# EAGLE library part 1324ПС2 (library microwave)
АЕЯР.431000.760–01 ТУ 1324ПС2 - СВЧ МИС широкополосного двойного балансного смесителя построенного на основе диодов Шоттки, имеет встроенный усилитель сигнала промежуточной частоты, обеспечивающий положительный коэффициент преобразования и согласование по выходу с линией с волновым сопротивлением 50 Ом. Возможно использование без встроенного усилителя. Входы смесителя являются согласованными. Достоинства: ► Диапазон входных частот 0,95-5,5 ГГц ► Диапазон выходных частот 0,01-1,6 ГГц ► Коэффициент преобразования 9,0 дБ ► Точка компрессии по входу 10,0 дБм ► Однополярное питание +5 В ► Потребляемый ток 30 мА ► Диапазон рабочих температур -60…+85 °С Назначение выводов: 1 Земля GND 2 Выход ПЧ IF_O 3 Вход РЧ RF 4 Земля GND 5 Вход гет. LO 6 Выход УПЧ и Uп IF 7 Вход УПЧ IF_I 8 Земля GND Электрические параметры при Uп=5 В, Pгет=16 дБм, fпч=100 МГц, Rн=50 Ом, Т=25 °С, если не указано иного. Параметр, единица измерения Условия 1324ПС2У мин. тип. макс. Диапазон рабочих частот по входу, ГГц Ррч=-20 дБм 1,0-5,0 0,95-5,5 Диапазон рабочих частот по выходу ПЧ, ГГц Ррч=-20 дБм 0,01-1,5 0,01-1,6 Коэффициент преобразования, дБ Ррч=-20 дБм, fрч=3 ГГц 5,0 9,0 Неравномерность коэфф. преобразования, дБ fрч=1,0 - 5,0 ГГц 5,0 Точка компрессии по входу, дБм Пас. режим 10 Изоляция ПЧ от гетеродина, дБ fгет=3 ГГц 25 30 Изоляция РЧ от гетеродина, дБ fгет=3 ГГц 33 Ток потребления, мА 25 60 Диапазон рабочих температур, °С -60 +85 Тепловое сопротивление «переход-среда», °С/Вт Корпус 5140.8-АНЗ 100 Производитель: ОАО «НПП «ПУЛЬСАР», г. Москва.
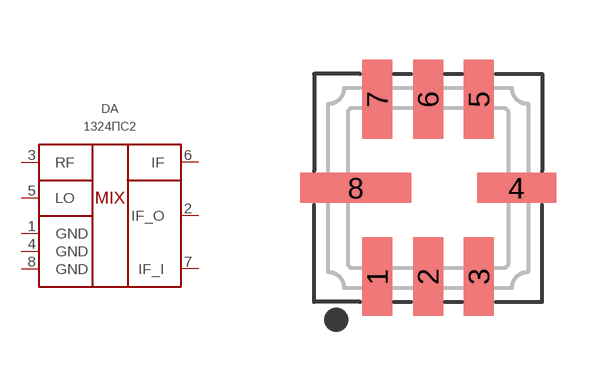
[diagram p8: symbol with the pads of 5140.8-АН3; footprint 5140.8-АН3]

Designator prefix DA

## 1324ПС2У  [5140.8-АН3]
1  GND  pwr
2  IF_O  out
3  RF  in
4  GND  pwr
5  LO  in
6  IF  out
7  IF_I  out
8  GND  pwr

## Footprint 5140.8-АН3 (pad centres in mm)
smd 0.75 x 1.97: 1 -1.27,-2.215; 2 0,-2.215; 3 1.27,-2.215; 5 1.27,2.215; 6 0,2.215; 7 -1.27,2.215
smd 1.97 x 0.75: 4 2.215,0
smd 2.78 x 0.75: 8 -1.81,0